# EAGLE library part BQ24210 (library mike-temp)
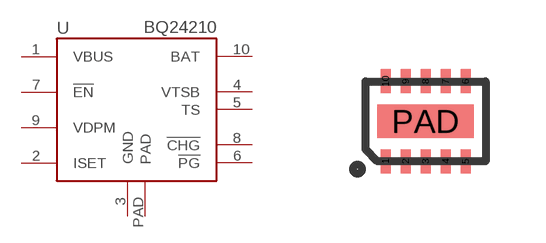
[diagram p25: symbol with the pads of DQC-10; footprint DQC-10]

Designator prefix U

## BQ24210DQC  [DQC-10]
1  VBUS
2  ISET  in
3  GND
4  VTSB  out
5  TS  in
6  !PG!  out
7  !EN!  in
8  !CHG!  out
9  VDPM  in
10  BAT
PAD  PAD

## Footprint DQC-10 (pad centres in mm)
smd 0.25 x 0.6: 1 -1,-1; 2 -0.5,-1; 3 0,-1; 4 0.5,-1; 5 1,-1; 6 1,1; 7 0.5,1; 8 0,1; 9 -0.5,1; 10 -1,1
smd 2.4 x 0.84: PAD 0,0